# Altium schematic symbol library LM61440AASQRJRRQ1.Schlib: 1 symbol
Pins are listed as number, name and electrical type; pins without a type are passive.

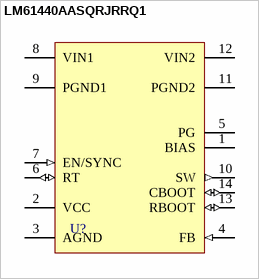
[diagram p0: symbol LM61440AASQRJRRQ1]

## LM61440AASQRJRRQ1
designator U?
3-36V input, 4.0 Amp Switching Voltage Regulator
pins: 1 BIAS, 2 VCC (power), 3 AGND (power), 4 FB (in), 5 PG (oc), 6 RT (io), 7 EN/SYNC (in), 8 VIN1 (power), 9 PGND1 (power), 10 SW (out), 11 PGND2 (power), 12 VIN2 (power), 13 RBOOT (io), 14 CBOOT (io)